# EAGLE library part CONNECTOR_9PIN (library lolomolo)
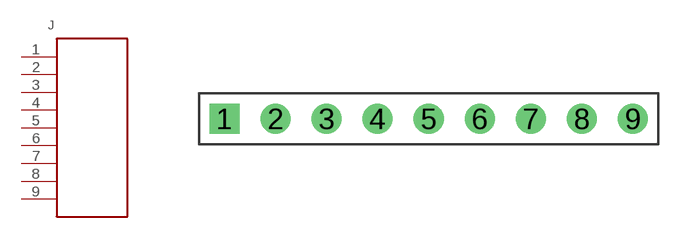
[diagram p22: symbol with the pads of 9PIN_.1'; footprint 9PIN_.1']

Designator prefix J

## CONNECTOR_9PIN  [9PIN_.1']
1  P$1
2  P$2
3  P$3
4  P$4
5  P$5
6  P$6
7  P$7
8  P$8
9  P$9

## Footprint 9PIN_.1' (pad centres in mm)
drill 0.991 square: 1 -10.16,0
drill 0.991: 2 -7.62,0; 3 -5.08,0; 4 -2.54,0; 5 0,0; 6 2.54,0; 7 5.08,0; 8 7.62,0; 9 10.16,0